# Altium schematic symbol library FH26W-45S-0.3SHW(60).Schlib: 1 symbol
Pins are listed as number, name and electrical type; pins without a type are passive.

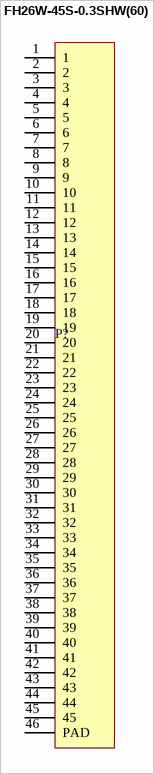
[diagram p0: symbol FH26W-45S-0.3SHW(60)]

## FH26W-45S-0.3SHW(60)
designator P?
0.3mm Pitch, 1.0mm Height FPC Connector
pins: 1, 2, 3, 4, 5, 6, 7, 8, 9, 10, 11, 12, 13, 14, 15, 16, 17, 18, 19, 20, 21, 22, 23, 24, 25, 26, 27, 28, 29, 30, 31, 32, 33, 34, 35, 36, 37, 38, 39, 40, 41, 42, 43, 44, 45, 46 PAD